# Altium schematic symbol library Schlib_Hirose_Electric.SchLib: 11 symbols
Pins are listed as number, name and electrical type; pins without a type are passive.

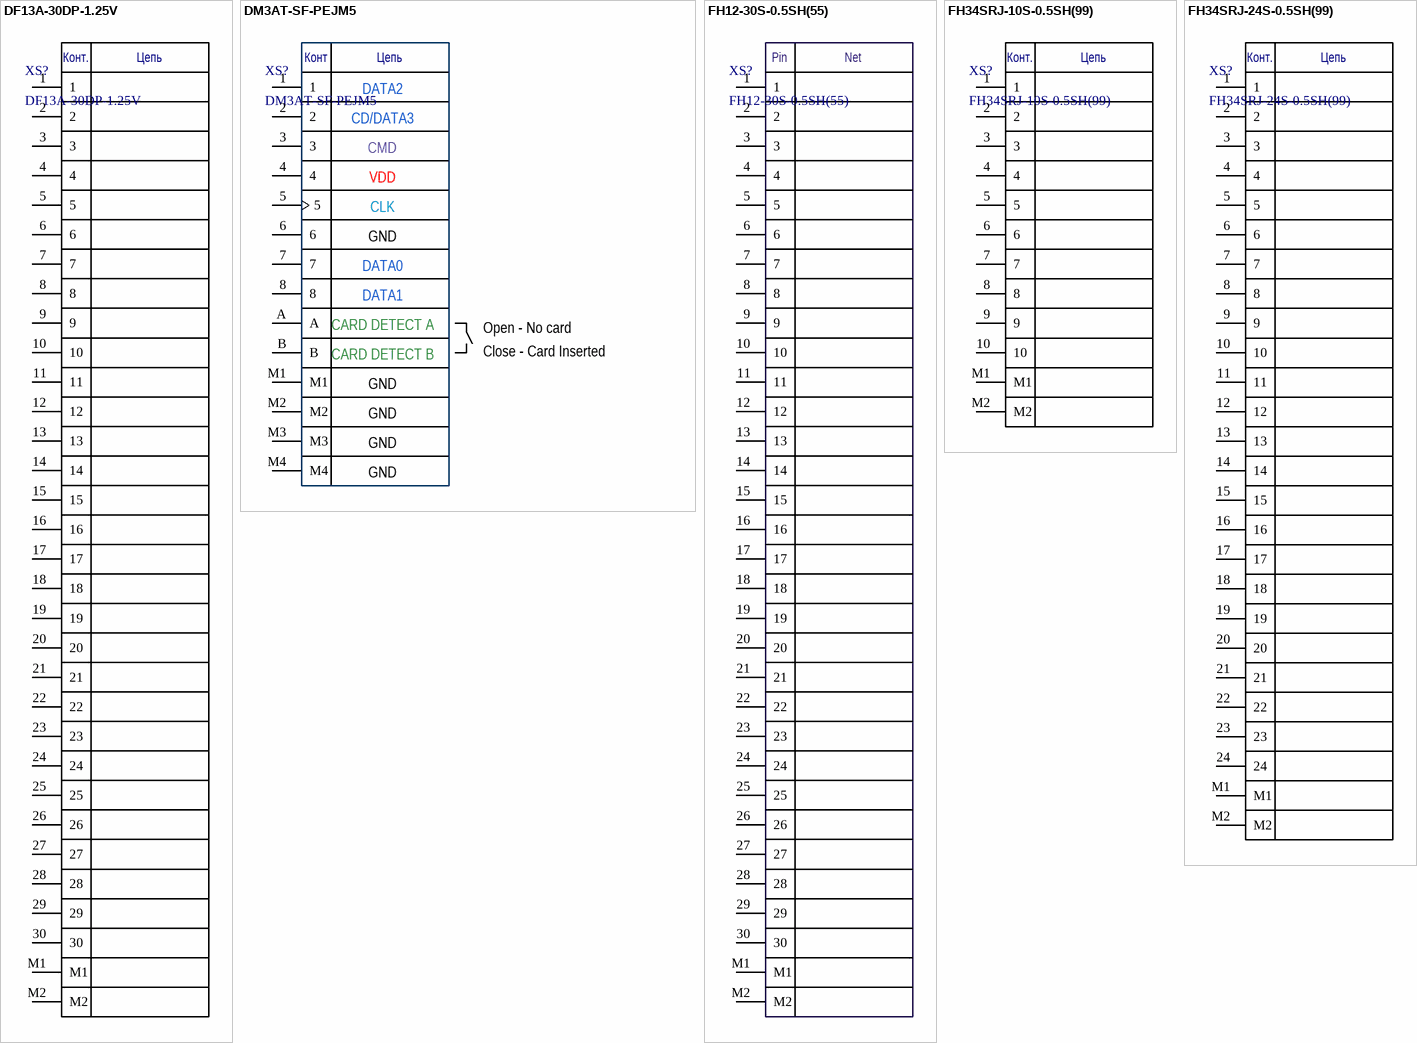
[diagram p0: symbols DF13A-30DP-1.25V to FH34SRJ-24S-0.5SH(99)]

## DF13A-30DP-1.25V
designator XS?
1.25mm Pitch, Double Row Straight Pin Header (SMT); Manufacturer: Hirose Electric Co Ltd.; Part Number: DF13A-30DP-1.25V
footprint DF13A-30DP-1.25V (Double Row Straight Pin Header (SMT))
pins: 1, 2, 3, 4, 5, 6, 7, 8, 9, 10, 11, 12, 13, 14, 15, 16, 17, 18, 19, 20, 21, 22, 23, 24, 25, 26, 27, 28, 29, 30, M1, M2
text: Конт.; Цепь

## DM3AT-SF-PEJM5
designator XS?
SD Card Socket; Manufacturer: Hirose Electric Co Ltd.; Part Number: DM3AT-SF-PEJM5
footprint DM3AT-SF-PEJM5 (SD Card Socket)
footprint DM3AT-SF-PEJM5(Variant 2) (SD Card Socket)
pins: 1, 2, 3, 4, 5, 6, 7, 8, A, B, M1, M2, M3, M4
text: Конт; Цепь; DATA2; CD/DATA3; CMD; VDD; CLK; GND; DATA0; DATA1; CARD DETECT A; Open - No card; Close - Card Inserted; CARD DETECT B

## FH12-30S-0.5SH(55)
designator XS?
0.5MM 30W FFC SMT R/A BOT CONT; Manufacturer: Hirose Electric Co Ltd.; Part Number: FH12-30S-0.5SH(55)
footprint FH12-30S-0.5SH (CONN FPC/FFC 30POS .5MM)
pins: 1, 2, 3, 4, 5, 6, 7, 8, 9, 10, 11, 12, 13, 14, 15, 16, 17, 18, 19, 20, 21, 22, 23, 24, 25, 26, 27, 28, 29, 30, M1, M2
text: Pin; Net

## FH34SRJ-10S-0.5SH(99)
designator XS?
0.5mm Pitch, Flexible Flat Cable ZIF Connectors; Manufacturer: Hirose Electric Co Ltd.; Part Number: FH34SRJ-10S-0.5SH(99)
footprint FH34SRJ-10S-0.5SH(99) (CONN FPC/FFC 10POS .5MM)
pins: 1, 2, 3, 4, 5, 6, 7, 8, 9, 10, M1, M2
text: Конт.; Цепь

## FH34SRJ-24S-0.5SH(99)
designator XS?
0.5mm Pitch, Flexible Flat Cable ZIF Connectors; Manufacturer: Hirose Electric Co Ltd.; Part Number: FH34SRJ-24S-0.5SH(99)
footprint FH34SRJ-24S-0.5SH(99) (CONN FPC/FFC 24POS .5MM)
pins: 1, 2, 3, 4, 5, 6, 7, 8, 9, 10, 11, 12, 13, 14, 15, 16, 17, 18, 19, 20, 21, 22, 23, 24, M1, M2
text: Конт.; Цепь

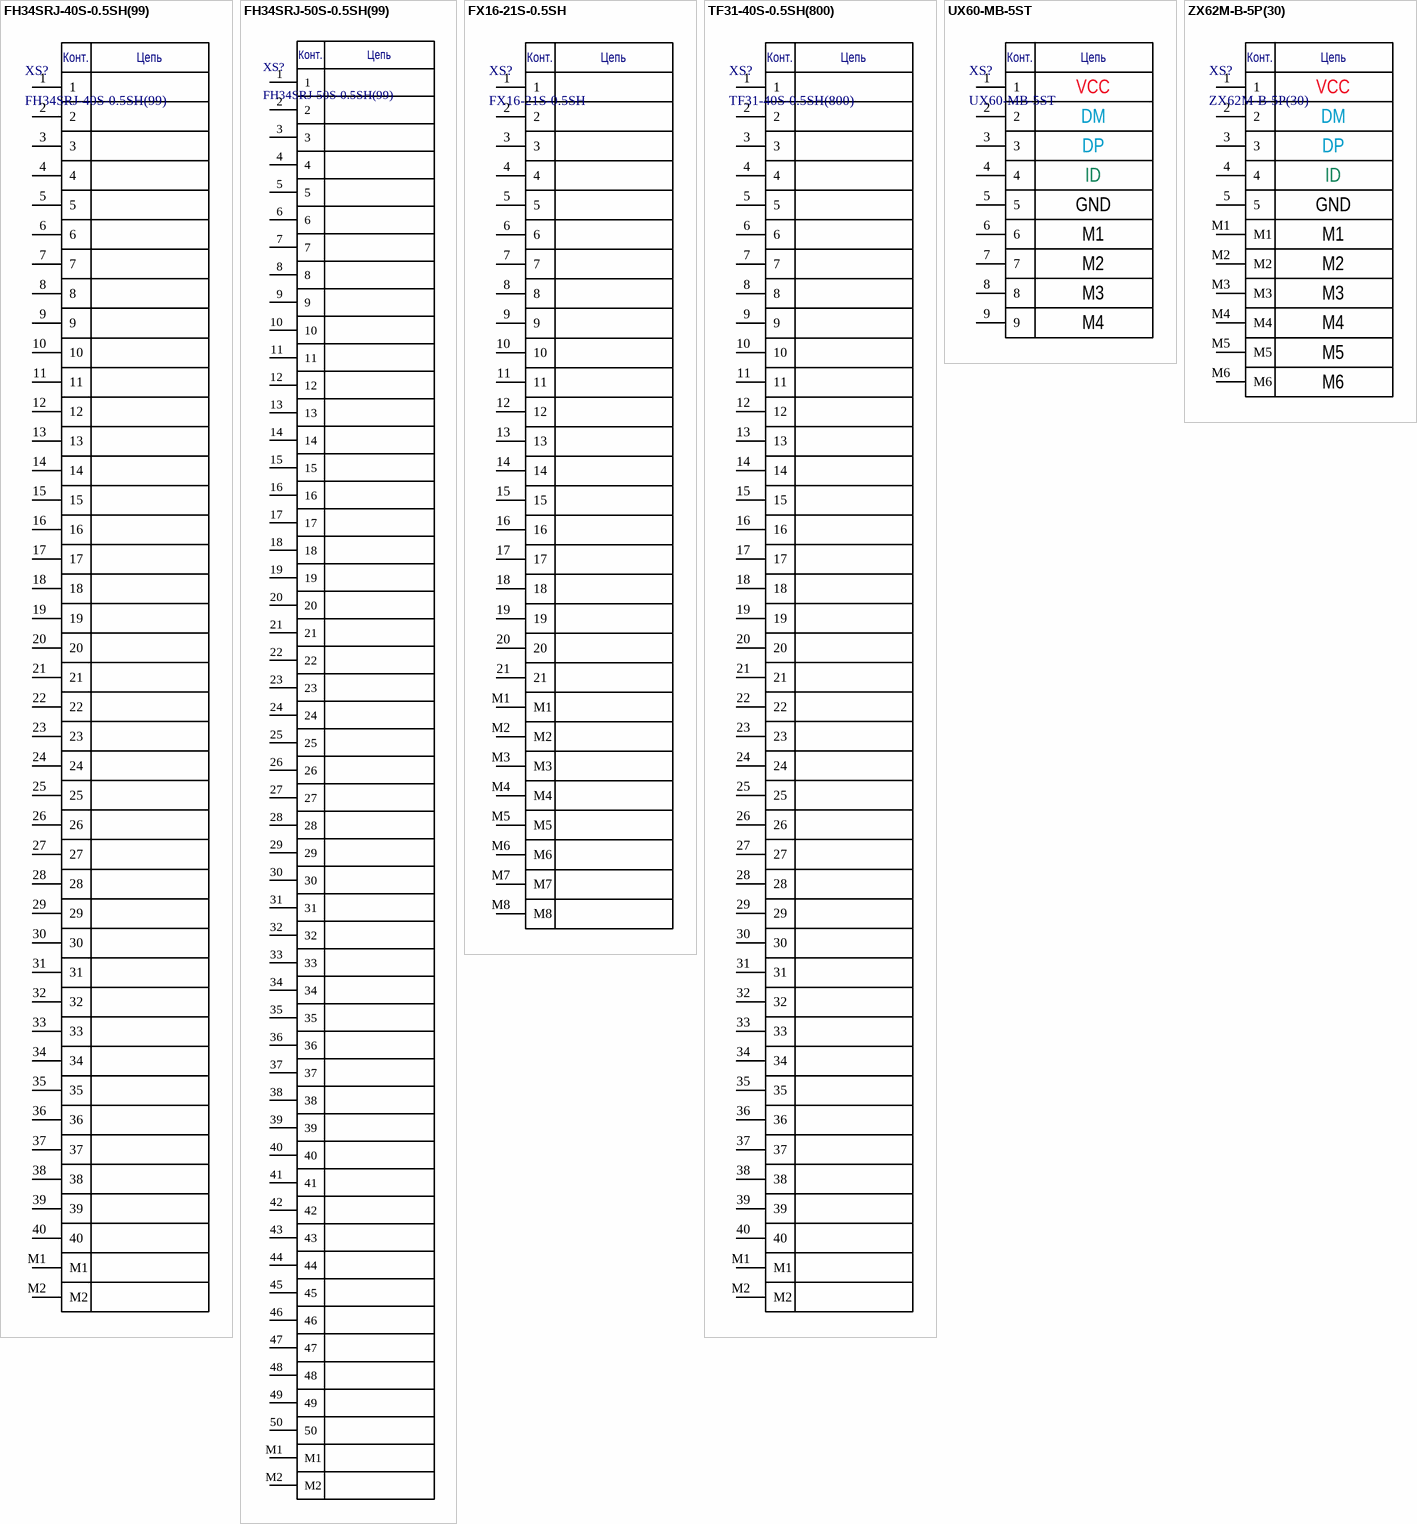
[diagram p1: symbols FH34SRJ-40S-0.5SH(99) to ZX62M-B-5P(30)]

## FH34SRJ-40S-0.5SH(99)
designator XS?
0.5mm Pitch, Flexible Flat Cable ZIF Connectors; Manufacturer: Hirose Electric Co Ltd.; Part Number: FH34SRJ-40S-0.5SH(99)
footprint FH34SRJ-40S-0.5SH(99) (CONN FPC/FFC 40POS .5MM)
pins: 1, 2, 3, 4, 5, 6, 7, 8, 9, 10, 11, 12, 13, 14, 15, 16, 17, 18, 19, 20, 21, 22, 23, 24, 25, 26, 27, 28, 29, 30, 31, 32, 33, 34, 35, 36, 37, 38, 39, 40, M1, M2
text: Конт.; Цепь

## FH34SRJ-50S-0.5SH(99)
designator XS?
0.5mm Pitch, Flexible Flat Cable ZIF Connectors; Manufacturer: Hirose Electric Co Ltd.; Part Number: FH34SRJ-50S-0.5SH(99)
footprint FH34SRJ-50S-0.5SH(99) (CONN FPC/FFC 50POS .5MM)
pins: 1, 2, 3, 4, 5, 6, 7, 8, 9, 10, 11, 12, 13, 14, 15, 16, 17, 18, 19, 20, 21, 22, 23, 24, 25, 26, 27, 28, 29, 30, 31, 32, 33, 34, 35, 36, 37, 38, 39, 40, 41, 42, 43, 44, 45, 46, 47, 48, 49, 50, M1, M2
text: Конт.; Цепь

## FX16-21S-0.5SH
designator XS?
0.5mm Pitch, Flexible Flat Cable ZIF Connectors; Manufacturer: Hirose Electric Co Ltd.; Part Number: FX16-21S-0.5SH
footprint FX16-21S-0.5SH
pins: 1, 2, 3, 4, 5, 6, 7, 8, 9, 10, 11, 12, 13, 14, 15, 16, 17, 18, 19, 20, 21, M1, M2, M3, M4, M5, M6, M7, M8
text: Конт.; Цепь

## TF31-40S-0.5SH(800)
designator XS?
0.5mm Pitch, Flexible Flat Cable ZIF Connectors; Manufacturer: Hirose Electric Co Ltd.; Part Number: TF31-40S-0.5SH(800)
footprint TF31-40S-0.5SH(800) (CONN FPC/FFC 40POS .5MM)
footprint TF31-40S-0.5SH_With_LCD (CONN FPC/FFC 40POS .5MM)
pins: 1, 2, 3, 4, 5, 6, 7, 8, 9, 10, 11, 12, 13, 14, 15, 16, 17, 18, 19, 20, 21, 22, 23, 24, 25, 26, 27, 28, 29, 30, 31, 32, 33, 34, 35, 36, 37, 38, 39, 40, M1, M2
text: Конт.; Цепь

## UX60-MB-5ST
designator XS?
Mini USB Connector Receptacle (type B); Manufacturer: Hirose Electric Co Ltd.; Part Number: UX60-MB-5ST
footprint UX60-MB-5ST (MiniUSB Connector)
pins: 1, 2, 3, 4, 5, 6, 7, 8, 9
text: Конт.; Цепь; VCC; DM; DP; ID; GND; M1; M2; M3; M4

## ZX62M-B-5P(30)
designator XS?
Micro USB Connector Receptacle (type B); Manufacturer: Hirose Electric Co Ltd.; Part Number: ZX62M-B-5P(30)
footprint ZX62M-B-5P(30)
pins: 1, 2, 3, 4, 5, M1, M2, M3, M4, M5, M6
text: Конт.; Цепь; VCC; DM; DP; ID; GND